# Altium footprint library Resistors.PcbLib: 7 footprints
Each footprint in its own frame and in the unit in brackets; x right, y up, seen from the top. Pads: shape width x height; smd on the part's side, far side on the other; paste and mask are expansions set on the pad; w line width, h text height; cw(c..) or ccw(c..) is an arc to the next point about the centre after c.
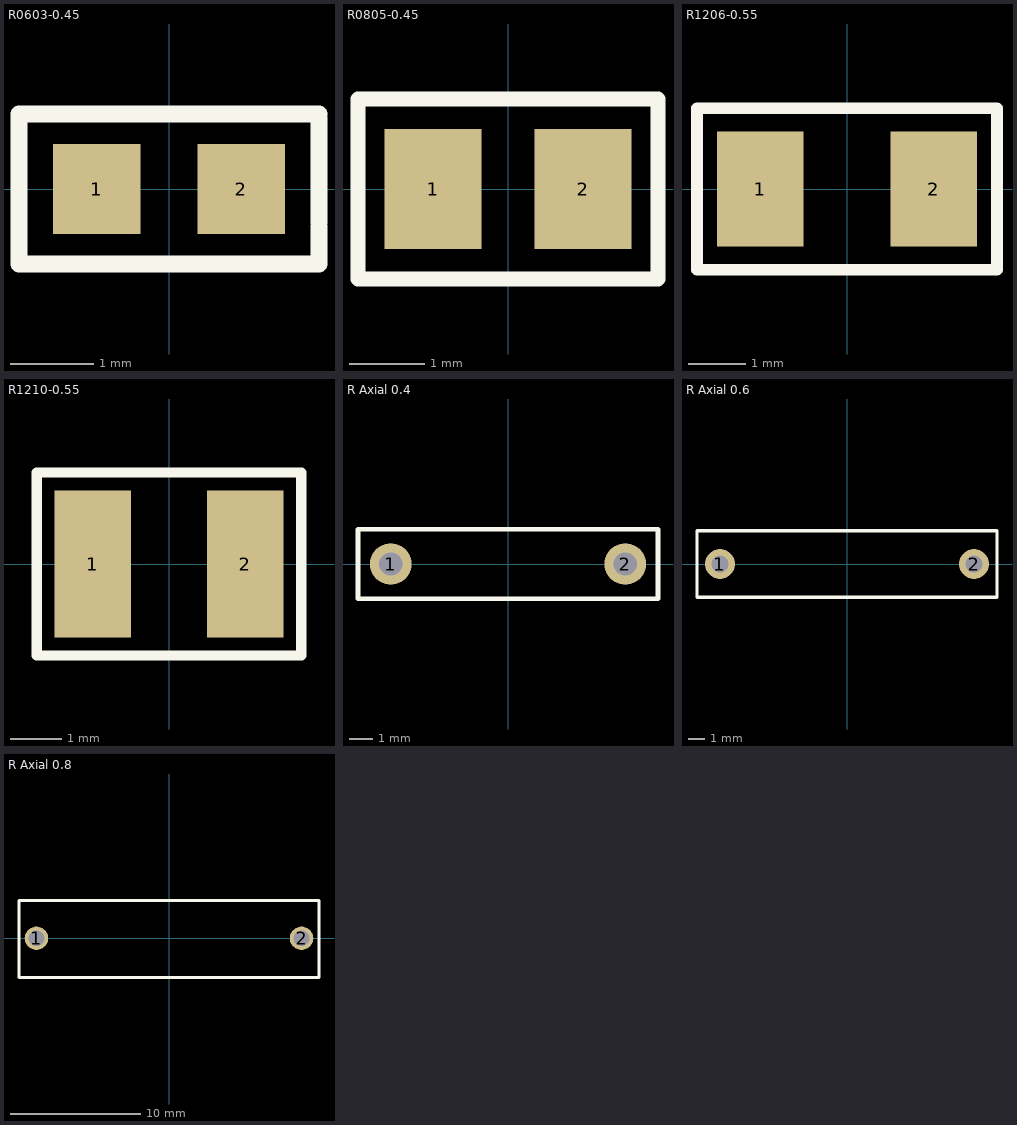
[diagram p0: the footprints below, top view; thin cyan lines are the x and y axes]

## R0603-0.45 [mm] "Resistor Chip 0603 Height 0.45mm"
height 0.45
pads (2):
  rect 1.05x1.08 smd: 1(-0.865,0) 2(0.865,0)
Top Overlay:
  lines w0.2: 1.8,-0.45 1.8,-0.9 -1.8,-0.9 -1.8,0.9 1.8,0.9 ; 1.8,-0.4 1.8,0.5 ; 1.8,0.4 1.8,0.85
3D body: height 0.46, standoff 0, extent -0.8,-0.4 0.8,0.4

## R0805-0.45 [mm] "Resistor Chip 0805 Height 0.45mm"
height 0.45
pads (2):
  rect 1.3x1.6 smd: 1(-1,0) 2(1,0)
Top Overlay:
  lines w0.2: -2,-0.7 -2,1.2 2,1.2 2,-1.2 -2,-1.2 -2,-0.65
3D body: height 0.46, standoff 0, extent -1,-0.625 1,0.625

## R1206-0.55 [mm] "Resistor Chip 1206 Height 0.55mm"
height 0.55
pads (2):
  rect 1.5x2 smd: 1(-1.5,0) 2(1.5,0)
Top Overlay:
  lines w0.2: -2.6,-1.4 -0.5,-1.4 0.9,-1.4 1.3,-1.4 2.6,-1.4 2.6,1.4 -2.6,1.4 -2.6,0.2 -2.6,-1.4
3D body: height 0.56, standoff 0, extent -1.6,-0.8 1.6,0.8

## R1210-0.55 [mm] "Resistor Chip 1210 Height 0.55mm"
height 0.55
pads (2):
  rect 1.5x2.9 smd: 1(-1.5,0) 2(1.5,0)
Top Overlay:
  lines w0.2: -2.6,-1.8 -2.6,0 -2.6,1.8 2.6,1.8 2.6,-1.8 -2.6,-1.8
3D body: height 0.56, standoff 0, extent -1.6,-1.25 1.6,1.25

## R Axial 0.4 [mm] "Resistor Axial 400 mils"
height 2.8
pads (2):
  round 1.8 hole 1: 1(-5.08,0) 2(5.08,0)
Top Overlay:
  lines w0.2: -6.5,-1.5 -6.5,1.5 6.5,1.5 6.5,-1.5 -6.5,-1.5
3D body: height 2.5, standoff -2.95, extent -5.379,-1.24 5.379,1.25

## R Axial 0.6 [mm] "Resistor Axial 600 mils"
height 3.5
pads (2):
  round 1.8 hole 1: 1(-7.62,0) 2(7.62,0)
Top Overlay:
  lines w0.2: -9,-2 9,-2 9,2 -9,2 -9,-2
3D body: height 3.2, standoff -2.6, extent -7.919,-1.587 7.92,1.6

## R Axial 0.8 [mm] "Resistor Axial 800 mils"
height 5
pads (2):
  round 1.8 hole 1.2: 1(-10.16,0) 2(10.16,0)
Top Overlay:
  lines w0.2: -11.5,-3 -11.5,2.9 11.5,2.9 11.5,-3 -11.5,-3
3D body: height 5, standoff -1.7, extent -10.459,-2.48 10.46,2.5